# Altium footprint library C01005 - MURATA.PcbLib: 1 footprints
Each footprint in its own frame and in the unit in brackets; x right, y up, seen from the top. Pads: shape width x height; smd on the part's side, far side on the other; paste and mask are expansions set on the pad; w line width, h text height; cw(c..) or ccw(c..) is an arc to the next point about the centre after c.
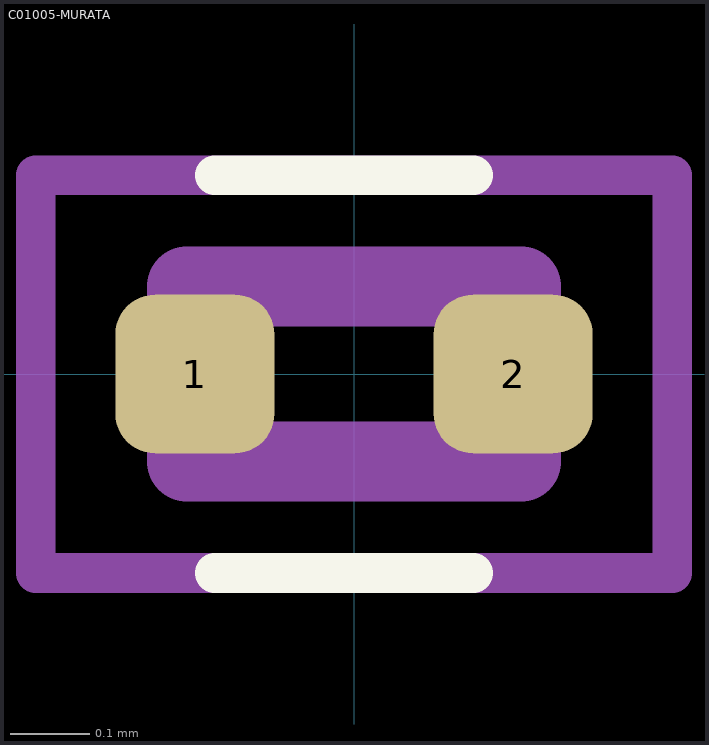
[diagram p0: the footprint, top view; thin cyan lines are the x and y axes]

## C01005-MURATA [mm] "Chip Capacitor, 2-Leads, Body 0,40x0,20mm, IPC High Density"
height 0.22
pads (2):
  rrect50% 0.2x0.2 smd mask+0.05: 1(-0.2,0) 2(0.2,0)
Top Overlay:
  lines w0.05: -0.175,-0.25 0.15,-0.25 ; -0.175,0.25 0.15,0.25
Mechanical 13:
  lines w0.1: -0.21,-0.11 0.21,-0.11 0.21,0.11 -0.21,0.11 -0.21,-0.11
Mechanical 15:
  lines w0.05: -0.4,-0.25 0.4,-0.25 0.4,0.25 -0.4,0.25 -0.4,-0.25
Top Designator:
  text ".Designator" at -1.1,-0.058 h0.25
3D body "GRM022R60J104ME15L.stp": height 0.22, standoff 0, extent -0.2,-0.1 0.2,0.1